# Altium footprint library KF350.PcbLib: 14 footprints
Each footprint in its own frame and in the unit in brackets; x right, y up, seen from the top. Pads: shape width x height; smd on the part's side, far side on the other; paste and mask are expansions set on the pad; w line width, h text height; cw(c..) or ccw(c..) is an arc to the next point about the centre after c.
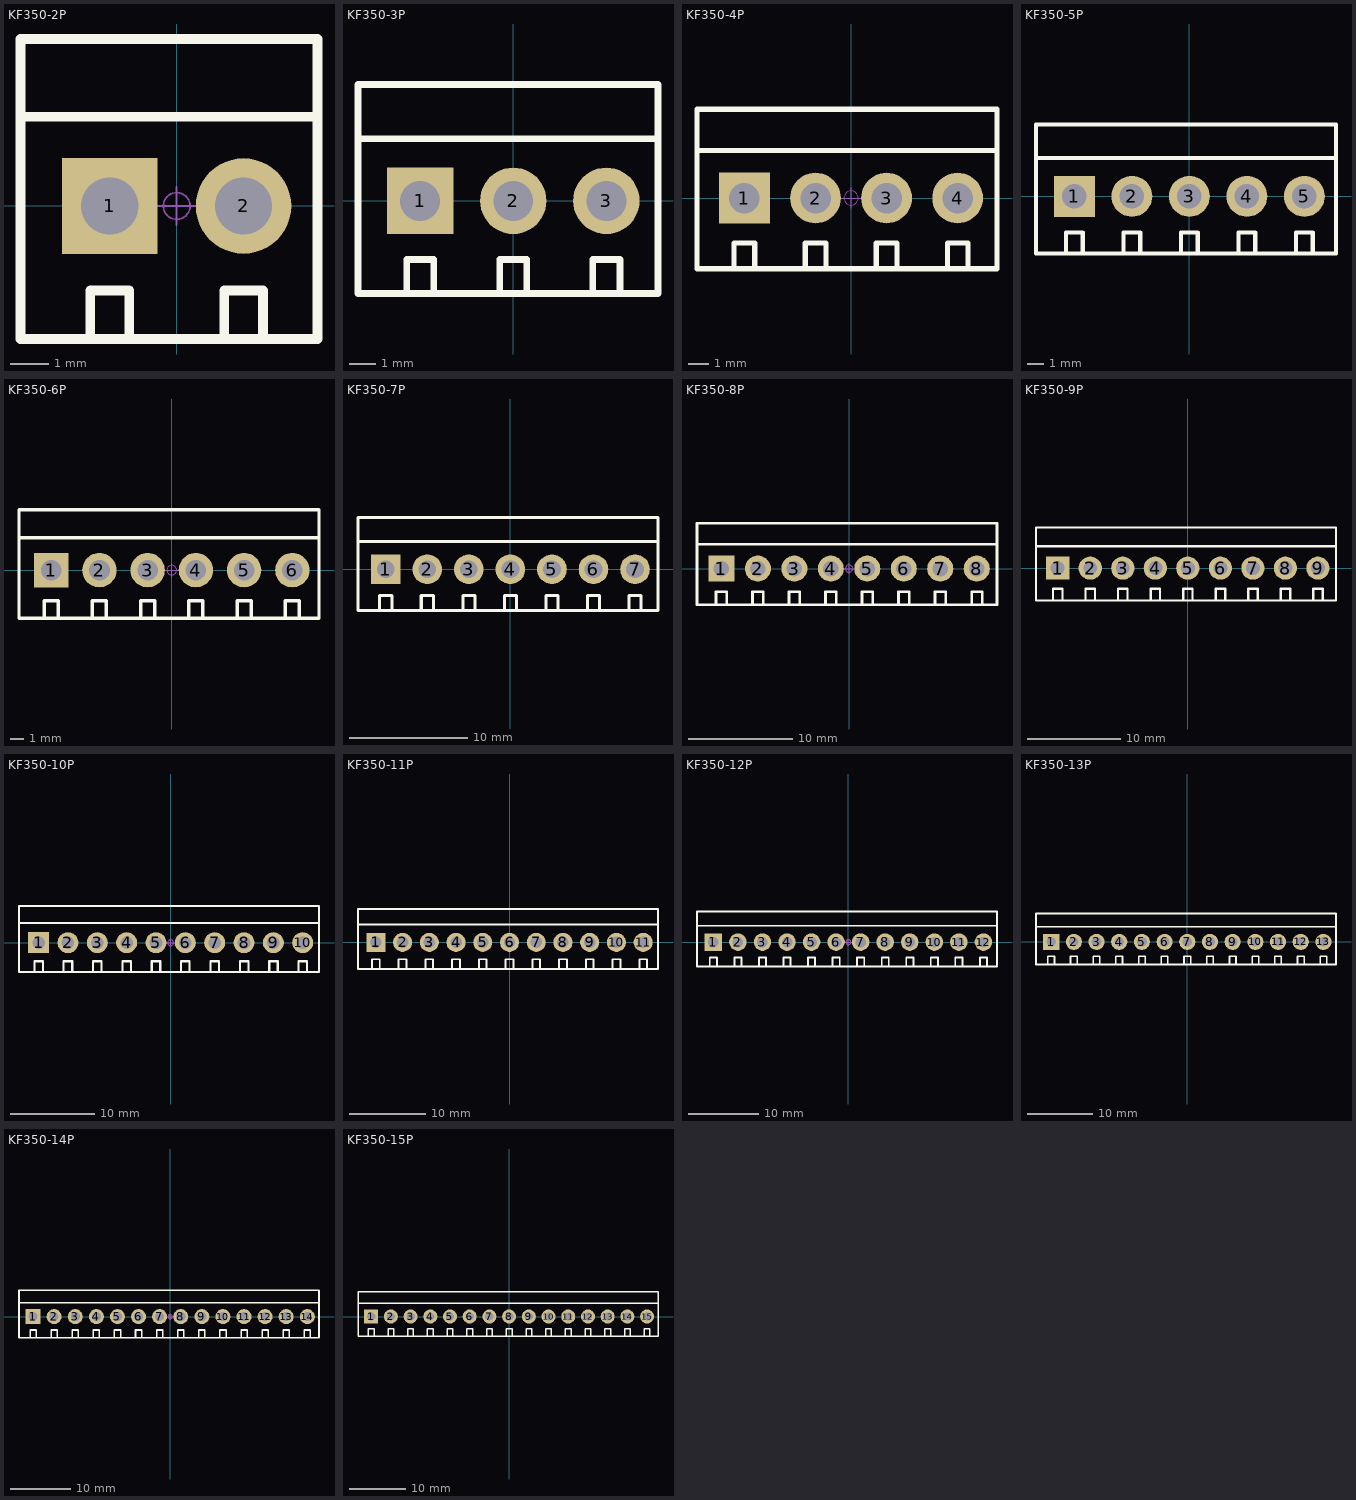
[diagram p0: the footprints below, top view; thin cyan lines are the x and y axes]

## KF350-2P [mm] "可拼接端子/10A"
pads (2):
  rect 2.5x2.5 hole 1.5: 1(-1.75,0)
  round 2.5 hole 1.5: 2(1.75,0)
Top Overlay:
  lines w0.254: -4.087,2.337 3.686,2.337 ; -2.258,-3.48 -2.258,-2.21 -1.242,-2.21 -1.242,-3.48 ; 1.242,-3.48 1.242,-2.21 2.258,-2.21 2.258,-3.48 ; -4.087,-3.48 3.686,-3.48 3.686,4.369 -4.087,4.369 -4.087,-3.48
Mechanical 15:
  circle w0.05: c0,0 r0.35
  lines w0.05: -0.5,0 0.5,0 ; 0,-0.5 0,0.5
3D body "KF350.STEP": height 10, standoff -3.8, extent -3.9,-3.3 0,4.2
3D body "KF350.STEP": height 10, standoff -3.8, extent -0.4,-3.3 3.5,4.2

## KF350-3P [mm] "可拼接端子/10A"
pads (3):
  rect 2.5x2.5 hole 1.5: 1(-3.5,0)
  round 2.5 hole 1.5: 2(0,0) 3(3.5,0)
Top Overlay:
  lines w0.254: -5.837,2.337 5.441,2.337 ; -4.008,-3.48 -4.008,-2.21 -2.992,-2.21 -2.992,-3.48 ; -0.508,-3.48 -0.508,-2.21 0.508,-2.21 0.508,-3.48 ; 2.992,-3.48 2.992,-2.21 4.008,-2.21 4.008,-3.48 ; -5.837,-3.48 -5.837,4.369 5.441,4.369 5.441,-3.48 -5.837,-3.48
Mechanical 15:
  circle w0.05: c0,0 r0.35
  lines w0.05: -0.5,0 0.5,0 ; 0,-0.5 0,0.5
3D body "KF350.STEP": height 10, standoff -3.8, extent -2.15,-3.3 1.75,4.2
3D body "KF350.STEP": height 10, standoff -3.8, extent -5.65,-3.3 -1.75,4.2
3D body "KF350.STEP": height 10, standoff -3.8, extent 1.35,-3.3 5.25,4.2

## KF350-4P [mm] "可拼接端子/10A"
pads (4):
  rect 2.5x2.5 hole 1.5: 1(-5.25,0)
  round 2.5 hole 1.5: 2(-1.75,0) 3(1.75,0) 4(5.25,0)
Top Overlay:
  lines w0.254: -7.587,2.337 7.186,2.337 ; -5.758,-3.48 -5.758,-2.21 -4.742,-2.21 -4.742,-3.48 ; -2.258,-3.48 -2.258,-2.21 -1.242,-2.21 -1.242,-3.48 ; 1.242,-3.48 1.242,-2.21 2.258,-2.21 2.258,-3.48 ; 4.742,-3.48 4.742,-2.21 5.758,-2.21 5.758,-3.48 ; -7.587,-3.48 -7.587,4.369 7.186,4.369 7.186,-3.48 -7.587,-3.48
Mechanical 15:
  circle w0.05: c0,0 r0.35
  lines w0.05: -0.5,0 0.5,0 ; 0,-0.5 0,0.5
3D body "KF350.STEP": height 10, standoff -3.8, extent -7.4,-3.3 -3.5,4.2
3D body "KF350.STEP": height 10, standoff -3.8, extent -3.9,-3.3 0,4.2
3D body "KF350.STEP": height 10, standoff -3.8, extent -0.4,-3.3 3.5,4.2
3D body "KF350.STEP": height 10, standoff -3.8, extent 3.1,-3.3 7,4.2

## KF350-5P [mm] "可拼接端子/10A"
pads (5):
  rect 2.5x2.5 hole 1.5: 1(-7,0)
  round 2.5 hole 1.5: 2(-3.5,0) 3(0,0) 4(3.5,0) 5(7,0)
Top Overlay:
  lines w0.254: -9.337,2.337 8.926,2.337 ; -7.508,-3.48 -7.508,-2.21 -6.492,-2.21 -6.492,-3.48 ; -4.008,-3.48 -4.008,-2.21 -2.992,-2.21 -2.992,-3.48 ; -0.508,-3.48 -0.508,-2.21 0.508,-2.21 0.508,-3.48 ; 2.992,-3.48 2.992,-2.21 4.008,-2.21 4.008,-3.48 ; 6.492,-3.48 6.492,-2.21 7.508,-2.21 7.508,-3.48 ; -9.337,-3.48 -9.337,4.369 8.926,4.369 8.926,-3.48 -9.337,-3.48
Mechanical 15:
  circle w0.05: c0,0 r0.35
  lines w0.05: -0.5,0 0.5,0 ; 0,-0.5 0,0.5
3D body "KF350.STEP": height 10, standoff -3.8, extent -9.15,-3.3 -5.25,4.2
3D body "KF350.STEP": height 10, standoff -3.8, extent -5.65,-3.3 -1.75,4.2
3D body "KF350.STEP": height 10, standoff -3.8, extent -2.15,-3.3 1.75,4.2
3D body "KF350.STEP": height 10, standoff -3.8, extent 1.35,-3.3 5.25,4.2
3D body "KF350.STEP": height 10, standoff -3.8, extent 4.85,-3.3 8.75,4.2

## KF350-6P [mm] "可拼接端子/10A"
pads (6):
  rect 2.5x2.5 hole 1.5: 1(-8.75,0)
  round 2.5 hole 1.5: 2(-5.25,0) 3(-1.75,0) 4(1.75,0) 5(5.25,0) 6(8.75,0)
Top Overlay:
  lines w0.254: -11.087,2.337 10.66,2.337 ; -9.258,-3.48 -9.258,-2.21 -8.242,-2.21 -8.242,-3.48 ; -5.758,-3.48 -5.758,-2.21 -4.742,-2.21 -4.742,-3.48 ; -2.258,-3.48 -2.258,-2.21 -1.242,-2.21 -1.242,-3.48 ; 1.242,-3.48 1.242,-2.21 2.258,-2.21 2.258,-3.48 ; 4.742,-3.48 4.742,-2.21 5.758,-2.21 5.758,-3.48 ; 8.243,-3.48 8.243,-2.21 9.259,-2.21 9.259,-3.48 ; -11.087,-3.48 10.686,-3.48 10.686,4.369 -11.087,4.369 -11.087,-3.48
Mechanical 15:
  circle w0.05: c0,0 r0.35
  lines w0.05: -0.5,0 0.5,0 ; 0,-0.5 0,0.5
3D body "KF350.STEP": height 10, standoff -3.8, extent -10.9,-3.3 -7,4.2
3D body "KF350.STEP": height 10, standoff -3.8, extent -7.4,-3.3 -3.5,4.2
3D body "KF350.STEP": height 10, standoff -3.8, extent -3.9,-3.3 0,4.2
3D body "KF350.STEP": height 10, standoff -3.8, extent -0.4,-3.3 3.5,4.2
3D body "KF350.STEP": height 10, standoff -3.8, extent 3.1,-3.3 7,4.2
3D body "KF350.STEP": height 10, standoff -3.8, extent 6.6,-3.3 10.5,4.2

## KF350-7P [mm] "可拼接端子/10A"
pads (7):
  rect 2.5x2.5 hole 1.5: 1(-10.5,0)
  round 2.5 hole 1.5: 2(-7,0) 3(-3.5,0) 4(0,0) 5(3.5,0) 6(7,0) 7(10.5,0)
Top Overlay:
  lines w0.254: -12.837,2.337 12.436,2.337 ; -11.008,-3.48 -11.008,-2.21 -9.992,-2.21 -9.992,-3.48 ; -7.508,-3.48 -7.508,-2.21 -6.492,-2.21 -6.492,-3.48 ; -4.008,-3.48 -4.008,-2.21 -2.992,-2.21 -2.992,-3.48 ; -0.508,-3.48 -0.508,-2.21 0.508,-2.21 0.508,-3.48 ; 2.992,-3.48 2.992,-2.21 4.008,-2.21 4.008,-3.48 ; 6.493,-3.48 6.493,-2.21 7.509,-2.21 7.509,-3.48 ; 9.998,-3.48 9.998,-2.21 11.014,-2.21 11.014,-3.48 ; -12.837,-3.48 -12.837,4.369 12.436,4.369 12.436,-3.48 -12.837,-3.48
Mechanical 15:
  circle w0.05: c0,0 r0.35
  lines w0.05: -0.5,0 0.5,0 ; 0,-0.5 0,0.5
3D body "KF350.STEP": height 10, standoff -3.8, extent -12.65,-3.3 -8.75,4.2
3D body "KF350.STEP": height 10, standoff -3.8, extent -9.15,-3.3 -5.25,4.2
3D body "KF350.STEP": height 10, standoff -3.8, extent -5.65,-3.3 -1.75,4.2
3D body "KF350.STEP": height 10, standoff -3.8, extent -2.15,-3.3 1.75,4.2
3D body "KF350.STEP": height 10, standoff -3.8, extent 1.35,-3.3 5.25,4.2
3D body "KF350.STEP": height 10, standoff -3.8, extent 4.85,-3.3 8.75,4.2
3D body "KF350.STEP": height 10, standoff -3.8, extent 8.35,-3.3 12.25,4.2

## KF350-8P [mm] "可拼接端子/10A"
pads (8):
  rect 2.5x2.5 hole 1.5: 1(-12.25,0)
  round 2.5 hole 1.5: 2(-8.75,0) 3(-5.25,0) 4(-1.75,0) 5(1.75,0) 6(5.25,0) 7(8.75,0) 8(12.25,0)
Top Overlay:
  lines w0.254: -14.587,2.337 14.191,2.337 ; -12.758,-3.48 -12.758,-2.21 -11.742,-2.21 -11.742,-3.48 ; -9.258,-3.48 -9.258,-2.21 -8.242,-2.21 -8.242,-3.48 ; -5.758,-3.48 -5.758,-2.21 -4.742,-2.21 -4.742,-3.48 ; -2.258,-3.48 -2.258,-2.21 -1.242,-2.21 -1.242,-3.48 ; 1.242,-3.48 1.242,-2.21 2.258,-2.21 2.258,-3.48 ; 4.743,-3.48 4.743,-2.21 5.759,-2.21 5.759,-3.48 ; 8.248,-3.48 8.248,-2.21 9.264,-2.21 9.264,-3.48 ; 11.753,-3.48 11.753,-2.21 12.769,-2.21 12.769,-3.48 ; -14.587,-3.48 -14.587,4.369 14.191,4.369 14.191,-3.48 -14.587,-3.48
Mechanical 15:
  circle w0.05: c0,0 r0.35
  lines w0.05: -0.5,0 0.5,0 ; 0,-0.5 0,0.5
3D body "KF350.STEP": height 10, standoff -3.8, extent -14.4,-3.3 -10.5,4.2
3D body "KF350.STEP": height 10, standoff -3.8, extent -10.9,-3.3 -7,4.2
3D body "KF350.STEP": height 10, standoff -3.8, extent -7.4,-3.3 -3.5,4.2
3D body "KF350.STEP": height 10, standoff -3.8, extent -3.9,-3.3 0,4.2
3D body "KF350.STEP": height 10, standoff -3.8, extent -0.4,-3.3 3.5,4.2
3D body "KF350.STEP": height 10, standoff -3.8, extent 3.1,-3.3 7,4.2
3D body "KF350.STEP": height 10, standoff -3.8, extent 6.6,-3.3 10.5,4.2
3D body "KF350.STEP": height 10, standoff -3.8, extent 10.1,-3.3 14,4.2

## KF350-9P [mm] "可拼接端子/10A"
pads (9):
  rect 2.5x2.5 hole 1.5: 1(-14,0)
  round 2.5 hole 1.5: 2(-10.5,0) 3(-7,0) 4(-3.5,0) 5(0,0) 6(3.5,0) 7(7,0) 8(10.5,0) 9(14,0)
Top Overlay:
  lines w0.254: -16.337,2.337 12.441,2.337 15.903,2.337 ; -14.508,-3.48 -14.508,-2.21 -13.492,-2.21 -13.492,-3.48 ; -11.008,-3.48 -11.008,-2.21 -9.992,-2.21 -9.992,-3.48 ; -7.508,-3.48 -7.508,-2.21 -6.492,-2.21 -6.492,-3.48 ; -4.008,-3.48 -4.008,-2.21 -2.992,-2.21 -2.992,-3.48 ; -0.508,-3.48 -0.508,-2.21 0.508,-2.21 0.508,-3.48 ; 2.993,-3.48 2.993,-2.21 4.009,-2.21 4.009,-3.48 ; 6.498,-3.48 6.498,-2.21 7.514,-2.21 7.514,-3.48 ; 10.003,-3.48 10.003,-2.21 11.019,-2.21 11.019,-3.48 ; 13.503,-3.48 13.503,-2.21 14.519,-2.21 14.519,-3.48 ; -16.337,-3.48 -16.337,4.369 12.441,4.369 15.941,4.369 15.941,-3.48 12.441,-3.48 -16.337,-3.48
Mechanical 15:
  circle w0.05: c0,0 r0.35
  lines w0.05: -0.5,0 0.5,0 ; 0,-0.5 0,0.5
3D body "KF350.STEP": height 10, standoff -3.8, extent -16.15,-3.3 -12.25,4.2
3D body "KF350.STEP": height 10, standoff -3.8, extent -12.65,-3.3 -8.75,4.2
3D body "KF350.STEP": height 10, standoff -3.8, extent -9.15,-3.3 -5.25,4.2
3D body "KF350.STEP": height 10, standoff -3.8, extent -5.65,-3.3 -1.75,4.2
3D body "KF350.STEP": height 10, standoff -3.8, extent -2.15,-3.3 1.75,4.2
3D body "KF350.STEP": height 10, standoff -3.8, extent 1.35,-3.3 5.25,4.2
3D body "KF350.STEP": height 10, standoff -3.8, extent 4.85,-3.3 8.75,4.2
3D body "KF350.STEP": height 10, standoff -3.8, extent 8.35,-3.3 12.25,4.2
3D body "KF350.STEP": height 10, standoff -3.8, extent 11.85,-3.3 15.75,4.2

## KF350-10P [mm] "可拼接端子/10A"
pads (10):
  rect 2.5x2.5 hole 1.5: 1(-15.75,0)
  round 2.5 hole 1.5: 2(-12.25,0) 3(-8.75,0) 4(-5.25,0) 5(-1.75,0) 6(1.75,0) 7(5.25,0) 8(8.75,0) 9(12.25,0) 10(15.75,0)
Top Overlay:
  lines w0.254: -18.087,2.337 10.691,2.337 14.153,2.337 ; -16.258,-3.48 -16.258,-2.21 -15.242,-2.21 -15.242,-3.48 ; -12.758,-3.48 -12.758,-2.21 -11.742,-2.21 -11.742,-3.48 ; -9.258,-3.48 -9.258,-2.21 -8.242,-2.21 -8.242,-3.48 ; -5.758,-3.48 -5.758,-2.21 -4.742,-2.21 -4.742,-3.48 ; -2.258,-3.48 -2.258,-2.21 -1.242,-2.21 -1.242,-3.48 ; 1.243,-3.48 1.243,-2.21 2.259,-2.21 2.259,-3.48 ; 4.748,-3.48 4.748,-2.21 5.764,-2.21 5.764,-3.48 ; 8.253,-3.48 8.253,-2.21 9.269,-2.21 9.269,-3.48 ; 11.753,-3.48 11.753,-2.21 12.769,-2.21 12.769,-3.48 ; 14.191,2.337 17.653,2.337 ; 15.253,-3.48 15.253,-2.21 16.269,-2.21 16.269,-3.48 ; -18.087,-3.48 10.691,-3.48 14.191,-3.48 17.691,-3.48 17.691,4.369 14.191,4.369 10.691,4.369 -18.087,4.369 -18.087,-3.48
Mechanical 15:
  circle w0.05: c0,0 r0.35
  lines w0.05: -0.5,0 0.5,0 ; 0,-0.5 0,0.5
3D body "KF350.STEP": height 10, standoff -3.8, extent 13.6,-3.3 17.5,4.2
3D body "KF350.STEP": height 10, standoff -3.8, extent 10.1,-3.3 14,4.2
3D body "KF350.STEP": height 10, standoff -3.8, extent 6.6,-3.3 10.5,4.2
3D body "KF350.STEP": height 10, standoff -3.8, extent 3.1,-3.3 7,4.2
3D body "KF350.STEP": height 10, standoff -3.8, extent -0.4,-3.3 3.5,4.2
3D body "KF350.STEP": height 10, standoff -3.8, extent -3.9,-3.3 0,4.2
3D body "KF350.STEP": height 10, standoff -3.8, extent -7.4,-3.3 -3.5,4.2
3D body "KF350.STEP": height 10, standoff -3.8, extent -10.9,-3.3 -7,4.2
3D body "KF350.STEP": height 10, standoff -3.8, extent -14.4,-3.3 -10.5,4.2
3D body "KF350.STEP": height 10, standoff -3.8, extent -17.9,-3.3 -14,4.2

## KF350-11P [mm] "可拼接端子/10A"
pads (11):
  rect 2.5x2.5 hole 1.5: 1(-17.5,0)
  round 2.5 hole 1.5: 2(-14,0) 3(-10.5,0) 4(-7,0) 5(-3.5,0) 6(0,0) 7(3.5,0) 8(7,0) 9(10.5,0) 10(14,0) 11(17.5,0)
Top Overlay:
  lines w0.254: -19.837,2.337 8.941,2.337 12.403,2.337 ; -18.008,-3.48 -18.008,-2.21 -16.992,-2.21 -16.992,-3.48 ; -14.508,-3.48 -14.508,-2.21 -13.492,-2.21 -13.492,-3.48 ; -11.008,-3.48 -11.008,-2.21 -9.992,-2.21 -9.992,-3.48 ; -7.508,-3.48 -7.508,-2.21 -6.492,-2.21 -6.492,-3.48 ; -4.008,-3.48 -4.008,-2.21 -2.992,-2.21 -2.992,-3.48 ; -0.507,-3.48 -0.507,-2.21 0.509,-2.21 0.509,-3.48 ; 2.998,-3.48 2.998,-2.21 4.014,-2.21 4.014,-3.48 ; 6.503,-3.48 6.503,-2.21 7.519,-2.21 7.519,-3.48 ; 10.003,-3.48 10.003,-2.21 11.019,-2.21 11.019,-3.48 ; 12.441,2.337 15.903,2.337 ; 13.503,-3.48 13.503,-2.21 14.519,-2.21 14.519,-3.48 ; 15.941,2.337 19.403,2.337 ; 17.003,-3.48 17.003,-2.21 18.019,-2.21 18.019,-3.48 ; -19.837,-3.48 -19.837,4.369 8.941,4.369 12.441,4.369 15.941,4.369 19.441,4.369 19.441,-3.48 15.941,-3.48 12.441,-3.48 8.941,-3.48 -19.837,-3.48
Mechanical 15:
  circle w0.05: c0,0 r0.35
  lines w0.05: -0.5,0 0.5,0 ; 0,-0.5 0,0.5
3D body "KF350.STEP": height 10, standoff -3.8, extent -19.65,-3.3 -15.75,4.2
3D body "KF350.STEP": height 10, standoff -3.8, extent -16.15,-3.3 -12.25,4.2
3D body "KF350.STEP": height 10, standoff -3.8, extent -12.65,-3.3 -8.75,4.2
3D body "KF350.STEP": height 10, standoff -3.8, extent -9.15,-3.3 -5.25,4.2
3D body "KF350.STEP": height 10, standoff -3.8, extent -5.65,-3.3 -1.75,4.2
3D body "KF350.STEP": height 10, standoff -3.8, extent -2.15,-3.3 1.75,4.2
3D body "KF350.STEP": height 10, standoff -3.8, extent 1.35,-3.3 5.25,4.2
3D body "KF350.STEP": height 10, standoff -3.8, extent 4.85,-3.3 8.75,4.2
3D body "KF350.STEP": height 10, standoff -3.8, extent 8.35,-3.3 12.25,4.2
3D body "KF350.STEP": height 10, standoff -3.8, extent 11.85,-3.3 15.75,4.2
3D body "KF350.STEP": height 10, standoff -3.8, extent 15.35,-3.3 19.25,4.2

## KF350-12P [mm] "可拼接端子/10A"
pads (12):
  rect 2.5x2.5 hole 1.5: 1(-19.25,0)
  round 2.5 hole 1.5: 2(-15.75,0) 3(-12.25,0) 4(-8.75,0) 5(-5.25,0) 6(-1.75,0) 7(1.75,0) 8(5.25,0) 9(8.75,0) 10(12.25,0) 11(15.75,0) 12(19.25,0)
Top Overlay:
  lines w0.254: -21.587,2.337 7.191,2.337 10.653,2.337 ; -19.758,-3.48 -19.758,-2.21 -18.742,-2.21 -18.742,-3.48 ; -16.258,-3.48 -16.258,-2.21 -15.242,-2.21 -15.242,-3.48 ; -12.758,-3.48 -12.758,-2.21 -11.742,-2.21 -11.742,-3.48 ; -9.258,-3.48 -9.258,-2.21 -8.242,-2.21 -8.242,-3.48 ; -5.758,-3.48 -5.758,-2.21 -4.742,-2.21 -4.742,-3.48 ; -2.257,-3.48 -2.257,-2.21 -1.241,-2.21 -1.241,-3.48 ; 1.248,-3.48 1.248,-2.21 2.264,-2.21 2.264,-3.48 ; 4.753,-3.48 4.753,-2.21 5.769,-2.21 5.769,-3.48 ; 8.253,-3.48 8.253,-2.21 9.269,-2.21 9.269,-3.48 ; 10.691,2.337 14.153,2.337 ; 11.753,-3.48 11.753,-2.21 12.769,-2.21 12.769,-3.48 ; 14.191,2.337 17.653,2.337 ; 15.253,-3.48 15.253,-2.21 16.269,-2.21 16.269,-3.48 ; 17.691,2.337 21.153,2.337 ; 18.753,-3.48 18.753,-2.21 19.769,-2.21 19.769,-3.48 ; 21.191,-3.48 17.691,-3.48 14.191,-3.48 10.691,-3.48 7.191,-3.48 -21.587,-3.48 -21.587,4.369 7.191,4.369 10.691,4.369 14.191,4.369 17.691,4.369 21.191,4.369 21.191,-3.309
Mechanical 15:
  circle w0.05: c0,0 r0.35
  lines w0.05: -0.5,0 0.5,0 ; 0,-0.5 0,0.5
3D body "KF350.STEP": height 10, standoff -3.8, extent -21.4,-3.3 -17.5,4.2
3D body "KF350.STEP": height 10, standoff -3.8, extent -17.9,-3.3 -14,4.2
3D body "KF350.STEP": height 10, standoff -3.8, extent -14.4,-3.3 -10.5,4.2
3D body "KF350.STEP": height 10, standoff -3.8, extent -10.9,-3.3 -7,4.2
3D body "KF350.STEP": height 10, standoff -3.8, extent -7.4,-3.3 -3.5,4.2
3D body "KF350.STEP": height 10, standoff -3.8, extent -3.9,-3.3 0,4.2
3D body "KF350.STEP": height 10, standoff -3.8, extent -0.4,-3.3 3.5,4.2
3D body "KF350.STEP": height 10, standoff -3.8, extent 3.1,-3.3 7,4.2
3D body "KF350.STEP": height 10, standoff -3.8, extent 6.6,-3.3 10.5,4.2
3D body "KF350.STEP": height 10, standoff -3.8, extent 10.1,-3.3 14,4.2
3D body "KF350.STEP": height 10, standoff -3.8, extent 13.6,-3.3 17.5,4.2
3D body "KF350.STEP": height 10, standoff -3.8, extent 17.1,-3.3 21,4.2

## KF350-13P [mm] "可拼接端子/10A"
pads (13):
  rect 2.5x2.5 hole 1.5: 1(-21,0)
  round 2.5 hole 1.5: 2(-17.5,0) 3(-14,0) 4(-10.5,0) 5(-7,0) 6(-3.5,0) 7(0,0) 8(3.5,0) 9(7,0) 10(10.5,0) 11(14,0) 12(17.5,0) 13(21,0)
Top Overlay:
  lines w0.254: -23.337,2.337 5.441,2.337 8.903,2.337 ; -21.508,-3.48 -21.508,-2.21 -20.492,-2.21 -20.492,-3.48 ; -18.008,-3.48 -18.008,-2.21 -16.992,-2.21 -16.992,-3.48 ; -14.508,-3.48 -14.508,-2.21 -13.492,-2.21 -13.492,-3.48 ; -11.008,-3.48 -11.008,-2.21 -9.992,-2.21 -9.992,-3.48 ; -7.508,-3.48 -7.508,-2.21 -6.492,-2.21 -6.492,-3.48 ; -4.007,-3.48 -4.007,-2.21 -2.991,-2.21 -2.991,-3.48 ; -0.502,-3.48 -0.502,-2.21 0.514,-2.21 0.514,-3.48 ; 3.003,-3.48 3.003,-2.21 4.019,-2.21 4.019,-3.48 ; 6.503,-3.48 6.503,-2.21 7.519,-2.21 7.519,-3.48 ; 8.941,2.337 12.403,2.337 ; 10.003,-3.48 10.003,-2.21 11.019,-2.21 11.019,-3.48 ; 12.441,2.337 15.903,2.337 ; 13.503,-3.48 13.503,-2.21 14.519,-2.21 14.519,-3.48 ; 15.941,2.337 19.403,2.337 ; 17.003,-3.48 17.003,-2.21 18.019,-2.21 18.019,-3.48 ; 19.441,2.337 22.903,2.337 ; 20.503,-3.48 20.503,-2.21 21.519,-2.21 21.519,-3.48 ; -23.337,-3.48 5.441,-3.48 8.941,-3.48 12.441,-3.48 15.941,-3.48 19.441,-3.48 22.941,-3.48 22.941,4.369 19.441,4.369 15.941,4.369 12.441,4.369 8.941,4.369 5.441,4.369 -23.337,4.369 -23.337,-3.48
Mechanical 15:
  circle w0.05: c0,0 r0.35
  lines w0.05: -0.5,0 0.5,0 ; 0,-0.5 0,0.5
3D body "KF350.STEP": height 10, standoff -3.8, extent 18.85,-3.3 22.75,4.2
3D body "KF350.STEP": height 10, standoff -3.8, extent 15.35,-3.3 19.25,4.2
3D body "KF350.STEP": height 10, standoff -3.8, extent 11.85,-3.3 15.75,4.2
3D body "KF350.STEP": height 10, standoff -3.8, extent 8.35,-3.3 12.25,4.2
3D body "KF350.STEP": height 10, standoff -3.8, extent 4.85,-3.3 8.75,4.2
3D body "KF350.STEP": height 10, standoff -3.8, extent 1.35,-3.3 5.25,4.2
3D body "KF350.STEP": height 10, standoff -3.8, extent -2.15,-3.3 1.75,4.2
3D body "KF350.STEP": height 10, standoff -3.8, extent -5.65,-3.3 -1.75,4.2
3D body "KF350.STEP": height 10, standoff -3.8, extent -9.15,-3.3 -5.25,4.2
3D body "KF350.STEP": height 10, standoff -3.8, extent -12.65,-3.3 -8.75,4.2
3D body "KF350.STEP": height 10, standoff -3.8, extent -16.15,-3.3 -12.25,4.2
3D body "KF350.STEP": height 10, standoff -3.8, extent -19.65,-3.3 -15.75,4.2
3D body "KF350.STEP": height 10, standoff -3.8, extent -23.15,-3.3 -19.25,4.2

## KF350-14P [mm] "可拼接端子/10A"
pads (14):
  rect 2.5x2.5 hole 1.5: 1(-22.75,0)
  round 2.5 hole 1.5: 2(-19.25,0) 3(-15.75,0) 4(-12.25,0) 5(-8.75,0) 6(-5.25,0) 7(-1.75,0) 8(1.75,0) 9(5.25,0) 10(8.75,0) 11(12.25,0) 12(15.75,0) 13(19.25,0) 14(22.75,0)
Top Overlay:
  lines w0.254: -25.087,2.337 3.691,2.337 7.153,2.337 ; -23.258,-3.48 -23.258,-2.21 -22.242,-2.21 -22.242,-3.48 ; -19.758,-3.48 -19.758,-2.21 -18.742,-2.21 -18.742,-3.48 ; -16.258,-3.48 -16.258,-2.21 -15.242,-2.21 -15.242,-3.48 ; -12.758,-3.48 -12.758,-2.21 -11.742,-2.21 -11.742,-3.48 ; -9.258,-3.48 -9.258,-2.21 -8.242,-2.21 -8.242,-3.48 ; -5.757,-3.48 -5.757,-2.21 -4.741,-2.21 -4.741,-3.48 ; -2.252,-3.48 -2.252,-2.21 -1.236,-2.21 -1.236,-3.48 ; 1.253,-3.48 1.253,-2.21 2.269,-2.21 2.269,-3.48 ; 4.753,-3.48 4.753,-2.21 5.769,-2.21 5.769,-3.48 ; 7.191,-3.48 3.691,-3.48 -25.087,-3.48 -25.087,4.369 3.691,4.369 7.191,4.369 ; 7.191,-3.48 10.691,-3.48 14.191,-3.48 17.691,-3.48 21.191,-3.48 24.691,-3.48 24.691,4.369 21.191,4.369 17.691,4.369 14.191,4.369 10.691,4.369 7.191,4.369 ; 7.191,2.337 10.653,2.337 ; 8.253,-3.48 8.253,-2.21 9.269,-2.21 9.269,-3.48 ; 10.691,2.337 14.153,2.337 ; 11.753,-3.48 11.753,-2.21 12.769,-2.21 12.769,-3.48 ; 14.191,2.337 17.653,2.337 ; 15.253,-3.48 15.253,-2.21 16.269,-2.21 16.269,-3.48 ; 17.691,2.337 21.153,2.337 ; 18.753,-3.48 18.753,-2.21 19.769,-2.21 19.769,-3.48 ; 21.191,2.337 24.653,2.337 ; 22.253,-3.48 22.253,-2.21 23.269,-2.21 23.269,-3.48
Mechanical 15:
  circle w0.05: c0,0 r0.35
  lines w0.05: -0.5,0 0.5,0 ; 0,-0.5 0,0.5
3D body "KF350.STEP": height 10, standoff -3.8, extent -24.9,-3.3 -21,4.2
3D body "KF350.STEP": height 10, standoff -3.8, extent -21.4,-3.3 -17.5,4.2
3D body "KF350.STEP": height 10, standoff -3.8, extent -17.9,-3.3 -14,4.2
3D body "KF350.STEP": height 10, standoff -3.8, extent -14.4,-3.3 -10.5,4.2
3D body "KF350.STEP": height 10, standoff -3.8, extent -10.9,-3.3 -7,4.2
3D body "KF350.STEP": height 10, standoff -3.8, extent -7.4,-3.3 -3.5,4.2
3D body "KF350.STEP": height 10, standoff -3.8, extent -3.9,-3.3 0,4.2
3D body "KF350.STEP": height 10, standoff -3.8, extent -0.4,-3.3 3.5,4.2
3D body "KF350.STEP": height 10, standoff -3.8, extent 3.1,-3.3 7,4.2
3D body "KF350.STEP": height 10, standoff -3.8, extent 6.6,-3.3 10.5,4.2
3D body "KF350.STEP": height 10, standoff -3.8, extent 10.1,-3.3 14,4.2
3D body "KF350.STEP": height 10, standoff -3.8, extent 13.6,-3.3 17.5,4.2
3D body "KF350.STEP": height 10, standoff -3.8, extent 17.1,-3.3 21,4.2
3D body "KF350.STEP": height 10, standoff -3.8, extent 20.6,-3.3 24.5,4.2

## KF350-15P [mm] "可拼接端子/10A"
pads (15):
  rect 2.5x2.5 hole 1.5: 1(-24.5,0)
  round 2.5 hole 1.5: 2(-21,0) 3(-17.5,0) 4(-14,0) 5(-10.5,0) 6(-7,0) 7(-3.5,0) 8(0,0) 9(3.5,0) 10(7,0) 11(10.5,0) 12(14,0) 13(17.5,0) 14(21,0) 15(24.5,0)
Top Overlay:
  lines w0.254: -26.837,2.337 1.941,2.337 5.403,2.337 ; -25.008,-3.48 -25.008,-2.21 -23.992,-2.21 -23.992,-3.48 ; -21.508,-3.48 -21.508,-2.21 -20.492,-2.21 -20.492,-3.48 ; -18.008,-3.48 -18.008,-2.21 -16.992,-2.21 -16.992,-3.48 ; -14.508,-3.48 -14.508,-2.21 -13.492,-2.21 -13.492,-3.48 ; -11.008,-3.48 -11.008,-2.21 -9.992,-2.21 -9.992,-3.48 ; -7.507,-3.48 -7.507,-2.21 -6.491,-2.21 -6.491,-3.48 ; -4.002,-3.48 -4.002,-2.21 -2.986,-2.21 -2.986,-3.48 ; -0.497,-3.48 -0.497,-2.21 0.519,-2.21 0.519,-3.48 ; 3.003,-3.48 3.003,-2.21 4.019,-2.21 4.019,-3.48 ; 5.441,2.337 8.903,2.337 ; 6.503,-3.48 6.503,-2.21 7.519,-2.21 7.519,-3.48 ; 8.941,2.337 12.403,2.337 ; 10.003,-3.48 10.003,-2.21 11.019,-2.21 11.019,-3.48 ; 12.441,2.337 15.903,2.337 ; 13.503,-3.48 13.503,-2.21 14.519,-2.21 14.519,-3.48 ; 15.941,2.337 19.403,2.337 ; 17.003,-3.48 17.003,-2.21 18.019,-2.21 18.019,-3.48 ; 19.441,2.337 22.903,2.337 ; 20.503,-3.48 20.503,-2.21 21.519,-2.21 21.519,-3.48 ; 22.941,2.337 26.403,2.337 ; 24.003,-3.48 24.003,-2.21 25.019,-2.21 25.019,-3.48 ; -26.837,-3.48 -26.837,4.369 1.941,4.369 5.441,4.369 8.941,4.369 12.441,4.369 15.941,4.369 19.441,4.369 22.941,4.369 26.441,4.369 26.441,-3.48 22.941,-3.48 19.441,-3.48 15.941,-3.48 12.441,-3.48 8.941,-3.48 5.441,-3.48 1.941,-3.48 -26.837,-3.48
Mechanical 15:
  circle w0.05: c0,0 r0.35
  lines w0.05: -0.5,0 0.5,0 ; 0,-0.5 0,0.5
3D body "KF350.STEP": height 10, standoff -3.8, extent -26.65,-3.3 -22.75,4.2
3D body "KF350.STEP": height 10, standoff -3.8, extent -23.15,-3.3 -19.25,4.2
3D body "KF350.STEP": height 10, standoff -3.8, extent -19.65,-3.3 -15.75,4.2
3D body "KF350.STEP": height 10, standoff -3.8, extent -16.15,-3.3 -12.25,4.2
3D body "KF350.STEP": height 10, standoff -3.8, extent -12.65,-3.3 -8.75,4.2
3D body "KF350.STEP": height 10, standoff -3.8, extent -9.15,-3.3 -5.25,4.2
3D body "KF350.STEP": height 10, standoff -3.8, extent -5.65,-3.3 -1.75,4.2
3D body "KF350.STEP": height 10, standoff -3.8, extent -2.15,-3.3 1.75,4.2
3D body "KF350.STEP": height 10, standoff -3.8, extent 1.35,-3.3 5.25,4.2
3D body "KF350.STEP": height 10, standoff -3.8, extent 4.85,-3.3 8.75,4.2
3D body "KF350.STEP": height 10, standoff -3.8, extent 8.35,-3.3 12.25,4.2
3D body "KF350.STEP": height 10, standoff -3.8, extent 11.85,-3.3 15.75,4.2
3D body "KF350.STEP": height 10, standoff -3.8, extent 15.35,-3.3 19.25,4.2
3D body "KF350.STEP": height 10, standoff -3.8, extent 18.85,-3.3 22.75,4.2
3D body "KF350.STEP": height 10, standoff -3.8, extent 22.35,-3.3 26.25,4.2